# Altium integrated library Analog Devices Data Converters Analog-to-Digital Converters.IntLib: 2400 symbols (part 299 of 338)
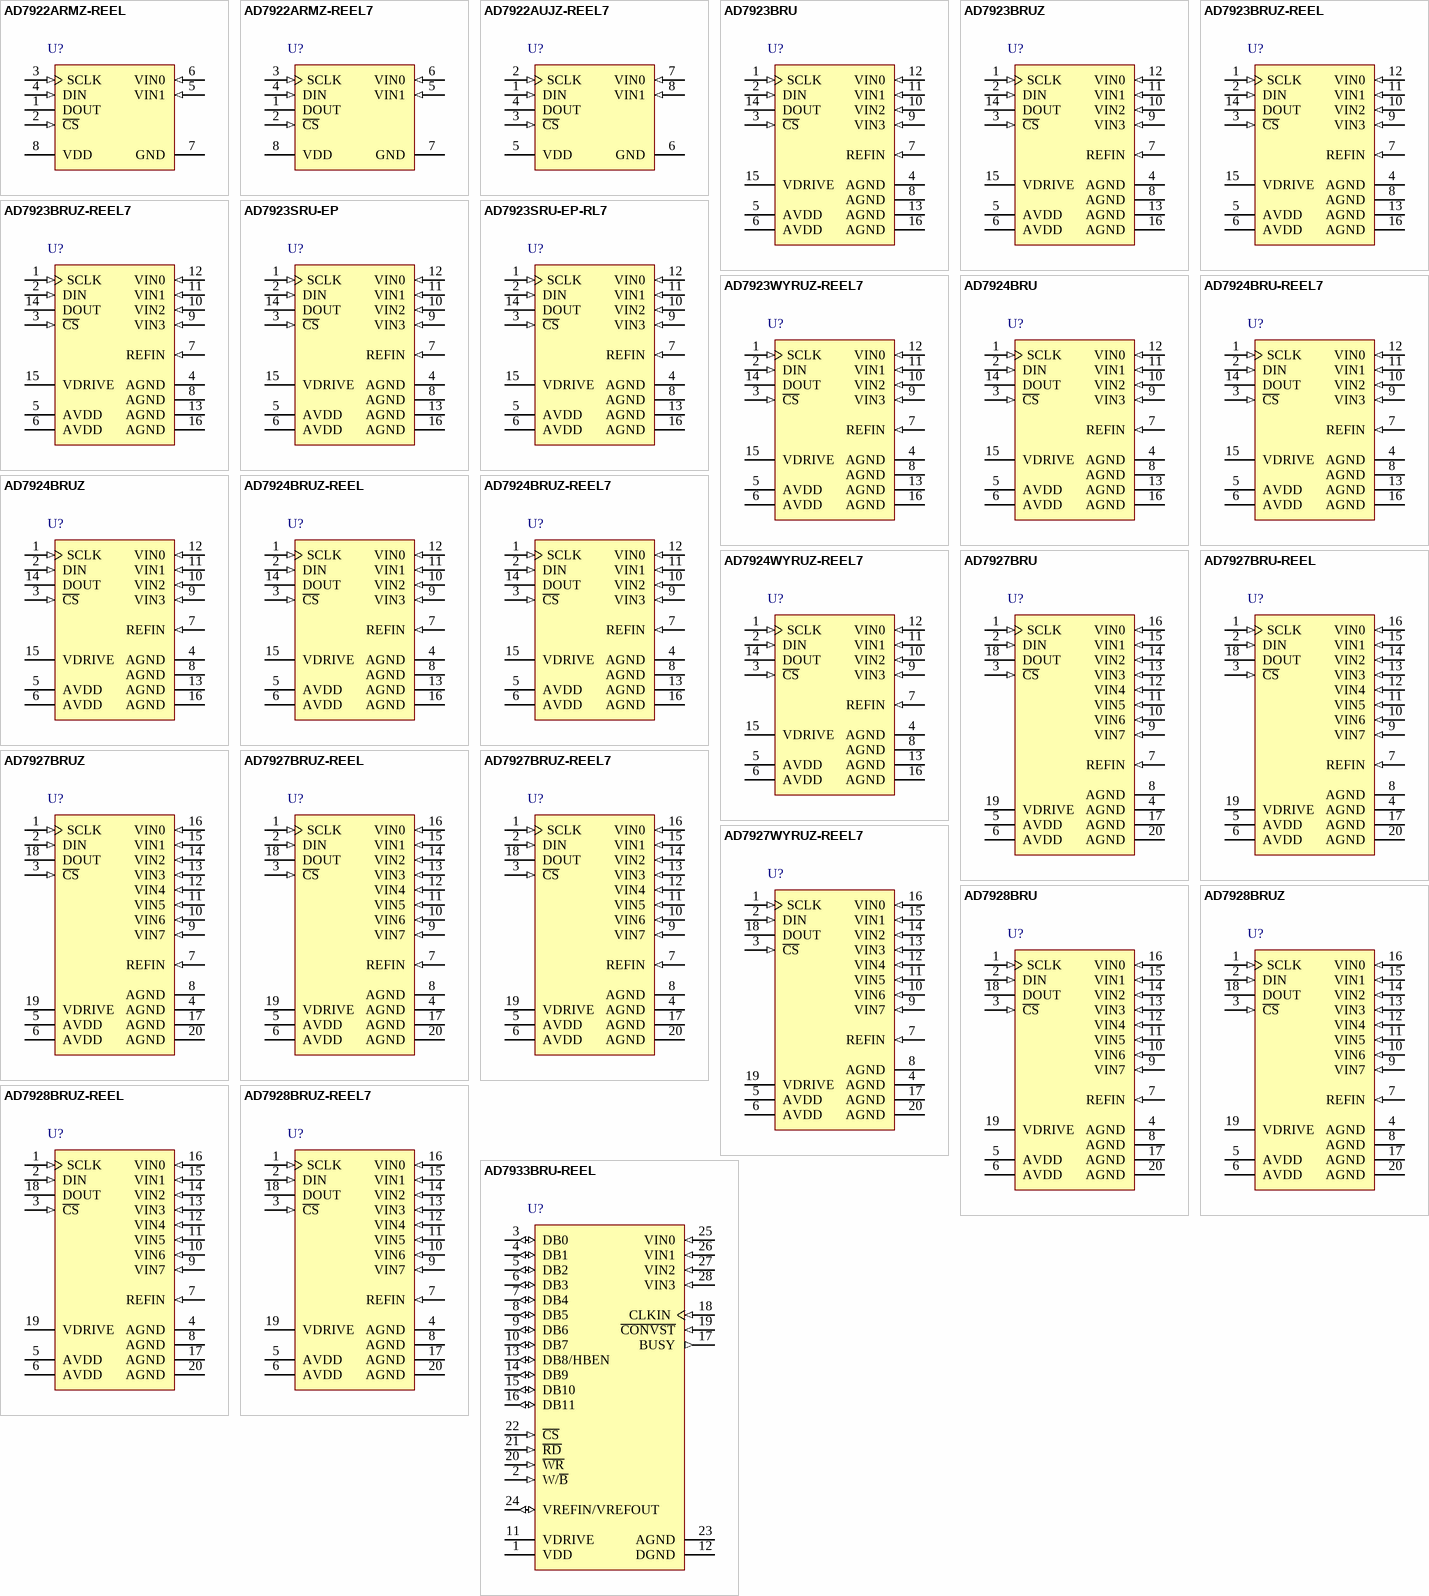
[diagram p417: symbols AD7922ARMZ-REEL to AD7933BRU-REEL]

## AD7923WYRUZ-REEL7
designator U?
Quad 12-Bit Analog-to-Digital Converter with Serial, SPI Interface and Sequencer, 200KSPS, -40 to +125 degC, RU-16, Pb-Free, Reel; Part Number: AD7923; Manufacturer: Analog Devices; Resolution (Bits): 12; Channels: 4; Throughput Rate (SPS): 200K; Interface: Ser, SPI; Automotive Qualified: Yes; DatasheetVersion: Rev.C; PackageVersion: Nov-2002; PackageReference: RU-16; PackageDescription: 16-Lead Thin Shrink Small Outline Package [TSSOP]; RoHS: Y; Packing: Reel; Mounting Technology: Surface Mount; Code_JEDEC: MO-153-AB; ComponentLink1Description: Manufacturer URL; ComponentLink1URL: http://www.analog.com/en/index.html; ComponentLink2Description: Datasheet; ComponentLink2URL: http://www.analog.com/static/imported-files/data_sheets/AD7923.pdf; ComponentLink3Description: Package Specification; ComponentLink3URL: http://www.analog.com/static/imported-files/packages/36244347913743854010197452789RU16.pdf; ComponentLink4Description: Product URL; ComponentLink4URL: http://www.analog.com/en/analog-to-digital-converters/ad-converters/ad7923/products/product.html
footprint RU-16_N (TSOP, 16-Leads, Body 5x4.4mm, Pitch 0.65mm, IPC Medium Density)
footprint RU-16_L (TSOP, 16-Leads, Body 5x4.4mm, Pitch 0.65mm, IPC High Density)
footprint RU-16_M (TSOP, 16-Leads, Body 5x4.4mm, Pitch 0.65mm, IPC Low Density)
pins: 1 SCLK (in) "Serial Clock. Logic Input. SCLK provides the serial clock for accessing data for the part. This clock input is also used as the clock source for the AD7923 conversion process.", 2 DIN (in) "Data In. Logic Input. Data to be written to the control register is provided on this input and is clocked into the register on the falling edge of SCLK (see the Control Register Descriptions section).", 3 ~{CS} (in) "Chip Select. Active low logic input. This input provides the dual function of initiating conversions on the AD7923 and framing the serial data transfer", 4 AGND (power) "Analog Ground. Ground reference point for all analog circuitry on the AD7923. All analog input signals and any external reference signal should be referred to this AGND voltage. All AGND pins should be connected together.", 5 AVDD (power) "Analog Power Supply Input. The AVDD range for the AD7923 is from 2.7 V to 5.25 V. For the 0 V to 2 x REFIN range, AVDD should be from 4.75 V to 5.25 V.", 6 AVDD (power) "Analog Power Supply Input. The AVDD range for the AD7923 is from 2.7 V to 5.25 V. For the 0 V to 2 x REFIN range, AVDD should be from 4.75 V to 5.25 V.", 7 REFIN (in) "Reference Input for the AD7923. An external reference must be applied to this input. The voltage range for the external reference is 2.5 V +/- 1% for specified performance.", 8 AGND (power) "Analog Ground. Ground reference point for all analog circuitry on the AD7923. All analog input signals and any external reference signal should be referred to this AGND voltage. All AGND pins should be connected together.", 9 VIN3 (in) "Analog Input 0 through Analog Input 3. Four single-ended analog input channels that are multiplexed into the onchip track-and-hold. The analog input channel to be converted is selected by using the Address Bits ADD1 and ADD0 (See Datasheet)", 10 VIN2 (in) "Analog Input 0 through Analog Input 3. Four single-ended analog input channels that are multiplexed into the onchip track-and-hold. The analog input channel to be converted is selected by using the Address Bits ADD1 and ADD0 (See Datasheet)", 11 VIN1 (in) "Analog Input 0 through Analog Input 3. Four single-ended analog input channels that are multiplexed into the onchip track-and-hold. The analog input channel to be converted is selected by using the Address Bits ADD1 and ADD0 (See Datasheet)", 12 VIN0 (in) "Analog Input 0 through Analog Input 3. Four single-ended analog input channels that are multiplexed into the onchip track-and-hold. The analog input channel to be converted is selected by using the Address Bits ADD1 and ADD0 (See Datasheet)", 13 AGND (power) "Analog Ground. Ground reference point for all analog circuitry on the AD7923. All analog input signals and any external reference signal should be referred to this AGND voltage. All AGND pins should be connected together.", 14 DOUT (hiz) "Data Out. Logic Output. The conversion result from the AD7923 is provided on this output pin as a serial data stream. The AD7923 serial data stream consists of two leading 0s, and two address bits indicating which channel (See Datasheet)", 15 VDRIVE (power) "Logic Power Supply Input. The voltage supplied at this pin determines at which voltage the serial interface operates.", 16 AGND (power) "Analog Ground. Ground reference point for all analog circuitry on the AD7923. All analog input signals and any external reference signal should be referred to this AGND voltage. All AGND pins should be connected together."

## AD7924BRU
designator U?
Quad 12-Bit Analog-to-Digital Converter with Serial, SPI Interface and Sequencer, 1MSPS, -40 to +85 degC, RU-16, Tube; Part Number: AD7924; Manufacturer: Analog Devices; Resolution (Bits): 12; Channels: 4; Throughput Rate (SPS): 1M; Interface: Ser, SPI; Automotive Qualified: Yes; DatasheetVersion: Rev.B; PackageVersion: Nov-2002; PackageReference: RU-16; PackageDescription: 16-Lead Thin Shrink Small Outline Package [TSSOP]; RoHS: N; Packing: Tube; Mounting Technology: Surface Mount; Code_JEDEC: MO-153-AB; ComponentLink1Description: Manufacturer URL; ComponentLink1URL: http://www.analog.com/en/index.html; ComponentLink2Description: Datasheet; ComponentLink2URL: http://www.analog.com/static/imported-files/data_sheets/AD7904_7914_7924.pdf; ComponentLink3Description: Package Specification; ComponentLink3URL: http://www.analog.com/static/imported-files/packages/36244347913743854010197452789RU16.pdf; ComponentLink4Description: Product URL; ComponentLink4URL: http://www.analog.com/en/analog-to-digital-converters/ad-converters/ad7924/products/product.html
footprint RU-16_N (TSOP, 16-Leads, Body 5x4.4mm, Pitch 0.65mm, IPC Medium Density)
footprint RU-16_L (TSOP, 16-Leads, Body 5x4.4mm, Pitch 0.65mm, IPC High Density)
footprint RU-16_M (TSOP, 16-Leads, Body 5x4.4mm, Pitch 0.65mm, IPC Low Density)
pins: 1 SCLK (in) "Serial Clock, Logic Input. SCLK provides the serial clock for accessing data from the part. This clock input is also used as the clock source for the AD7904/AD7914/AD7924 conversion process.", 2 DIN (in) "Data In, Logic Input. Data to be written to the control register of the AD7904/AD7914/AD7924 is provided on this input and is clocked into the register on the falling edge of SCLK (see the Control Register section).", 3 ~{CS} (in) "Chip Select. Active low logic input. This input provides the dual function of initiating conversions on the AD7904/AD7914/AD7924 and frames the serial data transfer.", 4 AGND (power) "Analog Ground. Ground reference point for all analog circuitry on the AD7904/AD7914/AD7924. All analog input signals and any external reference signal should be referred to this AGND voltage. All AGND pins should be (See Datasheet)", 5 AVDD (power) "Analog Power Supply Input. The AVDD range for the AD7904/AD7914/AD7924 is from 2.7 V to 5.25 V. For the 0 V to 2 x REFIN range, AVDD should be from 4.75 V to 5.25 V.", 6 AVDD (power) "Analog Power Supply Input. The AVDD range for the AD7904/AD7914/AD7924 is from 2.7 V to 5.25 V. For the 0 V to 2 x REFIN range, AVDD should be from 4.75 V to 5.25 V.", 7 REFIN (in) "Reference Input for the AD7904/AD7914/AD7924. An external reference must be applied to this input. The voltage range for the external reference is 2.5 V +/- 1% for specified performance.", 8 AGND (power) "Analog Ground. Ground reference point for all analog circuitry on the AD7904/AD7914/AD7924. All analog input signals and any external reference signal should be referred to this AGND voltage. All AGND pins should be (See Datasheet)", 9 VIN3 (in) "Analog Input 0 through Analog Input 3. The four single-ended analog input channels are multiplexed into the on-chip track-and-hold. The analog input channel to be converted is selected using the address bits ADD1 and ADD0 of (See Datasheet)", 10 VIN2 (in) "Analog Input 0 through Analog Input 3. The four single-ended analog input channels are multiplexed into the on-chip track-and-hold. The analog input channel to be converted is selected using the address bits ADD1 and ADD0 of (See Datasheet)", 11 VIN1 (in) "Analog Input 0 through Analog Input 3. The four single-ended analog input channels are multiplexed into the on-chip track-and-hold. The analog input channel to be converted is selected using the address bits ADD1 and ADD0 of (See Datasheet)", 12 VIN0 (in) "Analog Input 0 through Analog Input 3. The four single-ended analog input channels are multiplexed into the on-chip track-and-hold. The analog input channel to be converted is selected using the address bits ADD1 and ADD0 of (See Datasheet)", 13 AGND (power) "Analog Ground. Ground reference point for all analog circuitry on the AD7904/AD7914/AD7924. All analog input signals and any external reference signal should be referred to this AGND voltage. All AGND pins should be (See Datasheet)", 14 DOUT (hiz) "Data Out, Logic Output. The conversion result from the AD7904/AD7914/AD7924 is provided on this output as a serial data stream. The bits are clocked out on the falling edge of the SCLK input. The data stream from the AD7904 (See Datasheet)", 15 VDRIVE (power) "Logic Power Supply Input. The voltage supplied at this pin determines the voltage at which the serial interface of the AD7904/AD7914/AD7924 operates.", 16 AGND (power) "Analog Ground. Ground reference point for all analog circuitry on the AD7904/AD7914/AD7924. All analog input signals and any external reference signal should be referred to this AGND voltage. All AGND pins should be (See Datasheet)"